# Altium schematic symbol library SCH - MCU - STM32 - ST MICROELECTRONICS STM32MP153AADX TFBGA257.SchLib: 1 symbol
Pins are listed as number, name and electrical type; pins without a type are passive.

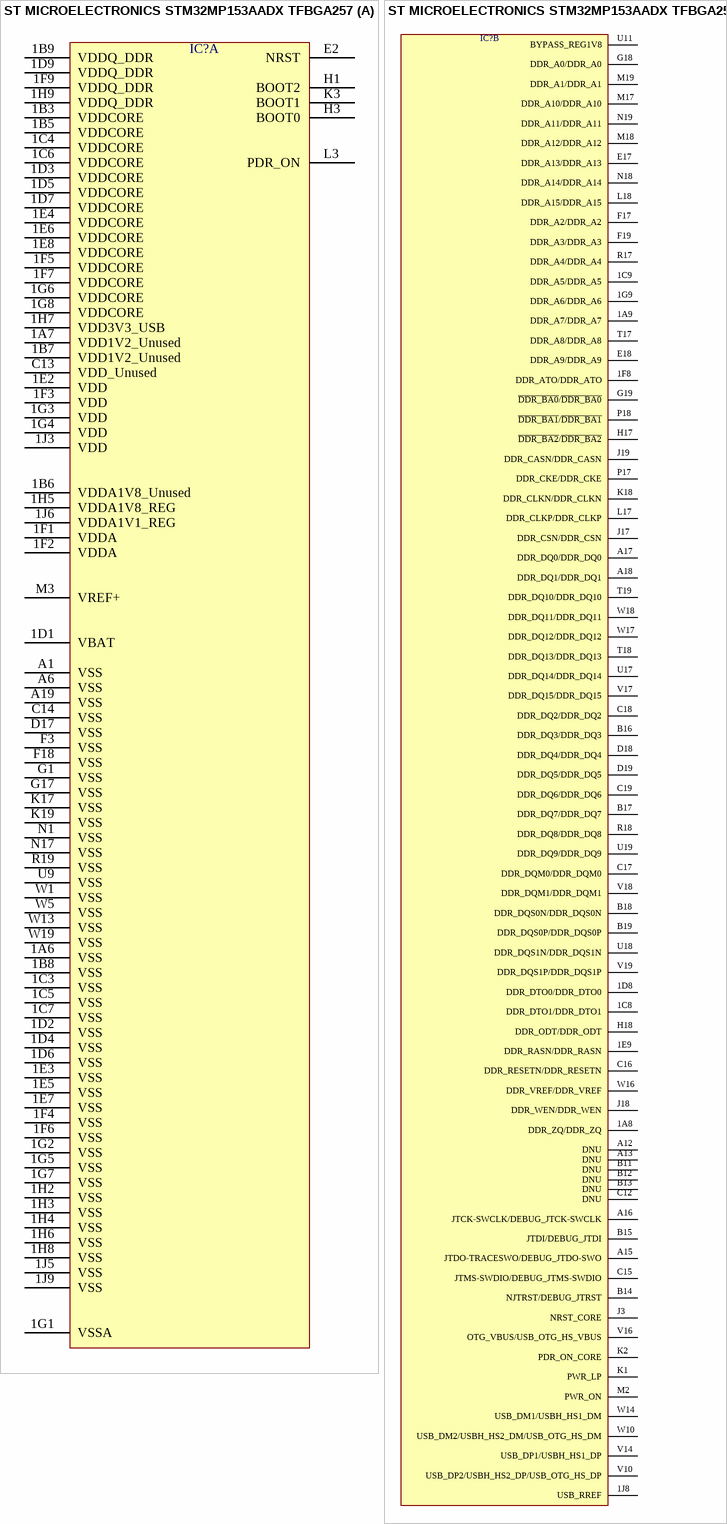
[diagram p0: symbol ST MICROELECTRONICS STM32MP153AADX TFBGA257]

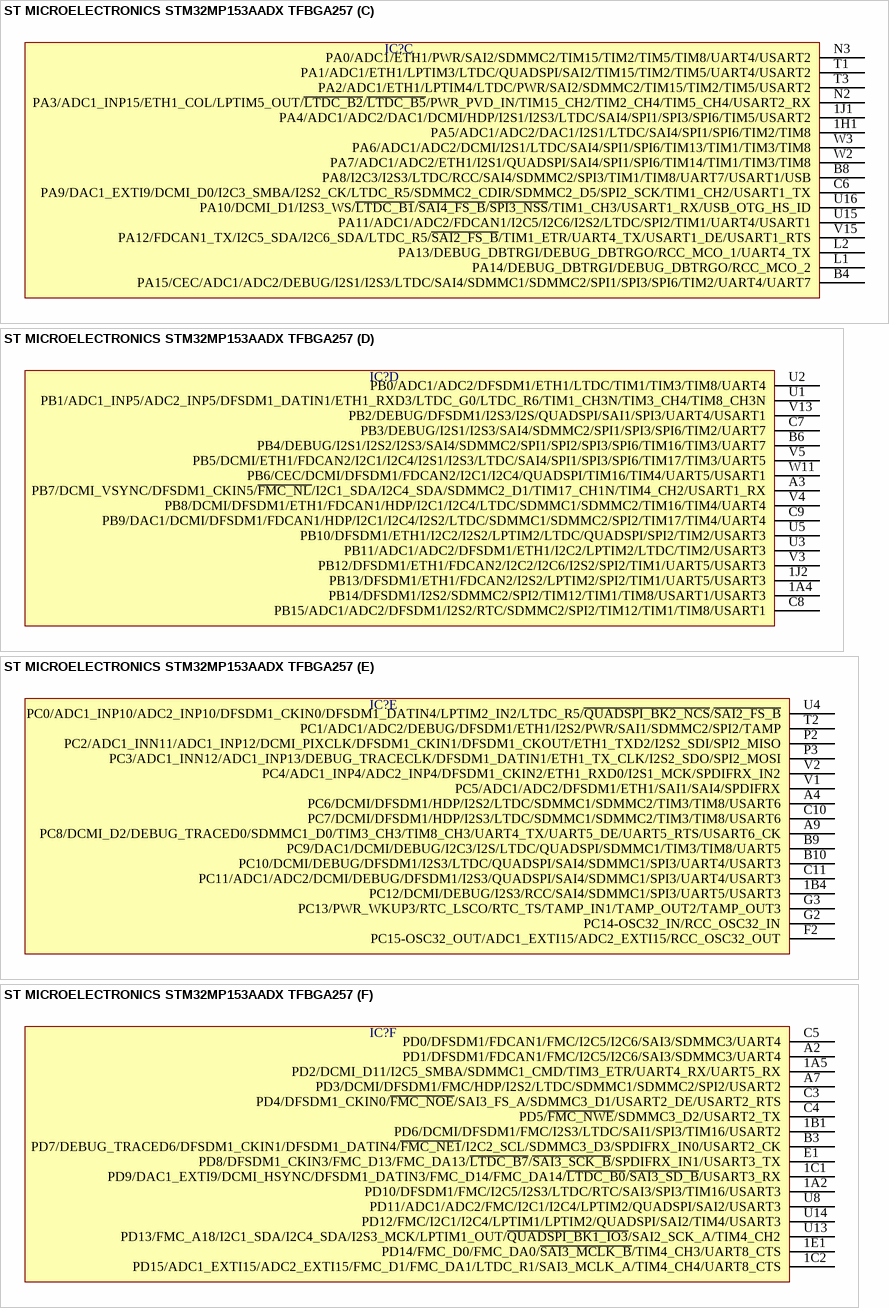
[diagram p1: symbol ST MICROELECTRONICS STM32MP153AADX TFBGA257]

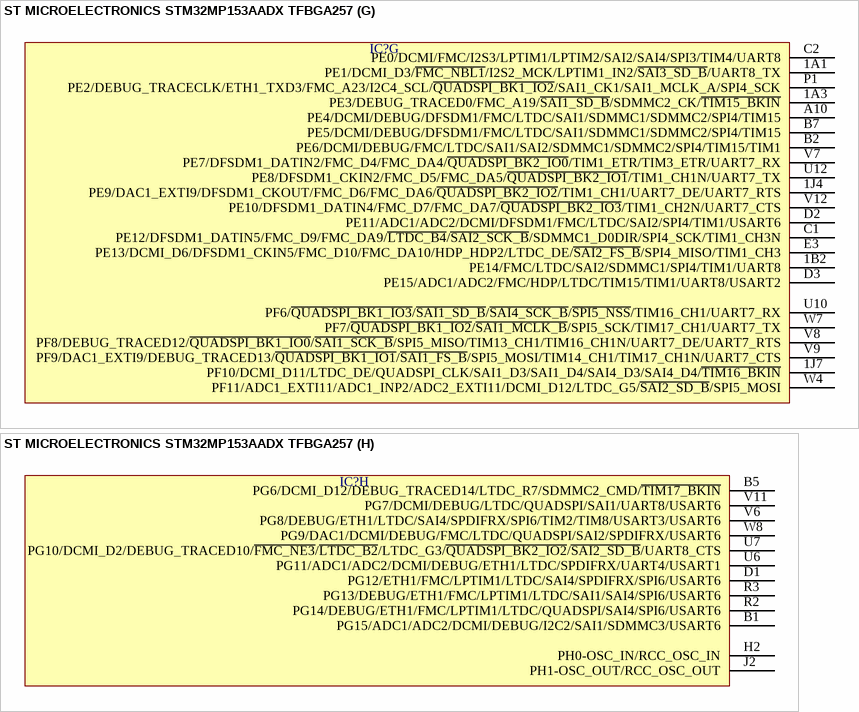
[diagram p2: symbol ST MICROELECTRONICS STM32MP153AADX TFBGA257]

## ST MICROELECTRONICS STM32MP153AADX TFBGA257
designator IC?  (value not drawn)
part A pins: 1A6 VSS, 1A7 VDD1V2_Unused, 1B3 VDDCORE, 1B5 VDDCORE, 1B6 VDDA1V8_Unused, 1B7 VDD1V2_Unused, 1B8 VSS, 1B9 VDDQ_DDR, 1C3 VSS, 1C4 VDDCORE, 1C5 VSS, 1C6 VDDCORE, 1C7 VSS, 1D1 VBAT, 1D2 VSS, 1D3 VDDCORE, 1D4 VSS, 1D5 VDDCORE, 1D6 VSS, 1D7 VDDCORE, 1D9 VDDQ_DDR, 1E2 VDD, 1E3 VSS, 1E4 VDDCORE, 1E5 VSS, 1E6 VDDCORE, 1E7 VSS, 1E8 VDDCORE, 1F1 VDDA, 1F2 VDDA, 1F3 VDD, 1F4 VSS, 1F5 VDDCORE, 1F6 VSS, 1F7 VDDCORE, 1F9 VDDQ_DDR, 1G1 VSSA, 1G2 VSS, 1G3 VDD, 1G4 VDD, 1G5 VSS, 1G6 VDDCORE, 1G7 VSS, 1G8 VDDCORE, 1H2 VSS, 1H3 VSS, 1H4 VSS, 1H5 VDDA1V8_REG, 1H6 VSS, 1H7 VDD3V3_USB, 1H8 VSS, 1H9 VDDQ_DDR, 1J3 VDD, 1J5 VSS, 1J6 VDDA1V1_REG, 1J9 VSS, A1 VSS, A6 VSS, A19 VSS, C13 VDD_Unused, C14 VSS, D17 VSS, E2 NRST, F3 VSS, F18 VSS, G1 VSS, G17 VSS, H1 BOOT2, H3 BOOT0, K3 BOOT1, K17 VSS, K19 VSS, L3 PDR_ON, M3 VREF+, N1 VSS, N17 VSS, R19 VSS, U9 VSS, W1 VSS, W5 VSS, W13 VSS, W19 VSS
part B pins: 1A8 DDR_ZQ/DDR_ZQ, 1A9 DDR_A7/DDR_A7, 1C8 DDR_DTO1/DDR_DTO1, 1C9 DDR_A5/DDR_A5, 1D8 DDR_DTO0/DDR_DTO0, 1E9 DDR_RASN/DDR_RASN, 1F8 DDR_ATO/DDR_ATO, 1G9 DDR_A6/DDR_A6, 1J8 USB_RREF, A12 DNU, A13 DNU, A15 JTDO-TRACESWO/DEBUG_JTDO-SWO, A16 JTCK-SWCLK/DEBUG_JTCK-SWCLK, A17 DDR_DQ0/DDR_DQ0, A18 DDR_DQ1/DDR_DQ1, B11 DNU, B12 DNU, B13 DNU, B14 NJTRST/DEBUG_JTRST, B15 JTDI/DEBUG_JTDI, B16 DDR_DQ3/DDR_DQ3, B17 DDR_DQ7/DDR_DQ7, B18 DDR_DQS0N/DDR_DQS0N, B19 DDR_DQS0P/DDR_DQS0P, C12 DNU, C15 JTMS-SWDIO/DEBUG_JTMS-SWDIO, C16 DDR_RESETN/DDR_RESETN, C17 DDR_DQM0/DDR_DQM0, C18 DDR_DQ2/DDR_DQ2, C19 DDR_DQ6/DDR_DQ6, D18 DDR_DQ4/DDR_DQ4, D19 DDR_DQ5/DDR_DQ5, E17 DDR_A13/DDR_A13, E18 DDR_A9/DDR_A9, F17 DDR_A2/DDR_A2, F19 DDR_A3/DDR_A3, G18 DDR_A0/DDR_A0, G19 ~{DDR_BA0}/~{DDR_BA0}, H17 ~{DDR_BA2}/~{DDR_BA2}, H18 DDR_ODT/DDR_ODT, J3 NRST_CORE, J17 DDR_CSN/DDR_CSN, J18 DDR_WEN/DDR_WEN, J19 DDR_CASN/DDR_CASN, K1 PWR_LP, K2 PDR_ON_CORE, K18 DDR_CLKN/DDR_CLKN, L17 DDR_CLKP/DDR_CLKP, L18 DDR_A15/DDR_A15, M2 PWR_ON, M17 DDR_A10/DDR_A10, M18 DDR_A12/DDR_A12, M19 DDR_A1/DDR_A1, N18 DDR_A14/DDR_A14, N19 DDR_A11/DDR_A11, P17 DDR_CKE/DDR_CKE, P18 ~{DDR_BA1}/~{DDR_BA1}, R17 DDR_A4/DDR_A4, R18 DDR_DQ8/DDR_DQ8, T17 DDR_A8/DDR_A8, T18 DDR_DQ13/DDR_DQ13, T19 DDR_DQ10/DDR_DQ10, U11 BYPASS_REG1V8, U17 DDR_DQ14/DDR_DQ14, U18 DDR_DQS1N/DDR_DQS1N, U19 DDR_DQ9/DDR_DQ9, V10 USB_DP2/USBH_HS2_DP/USB_OTG_HS_DP, V14 USB_DP1/USBH_HS1_DP, V16 OTG_VBUS/USB_OTG_HS_VBUS, V17 DDR_DQ15/DDR_DQ15, V18 DDR_DQM1/DDR_DQM1, V19 DDR_DQS1P/DDR_DQS1P, W10 USB_DM2/USBH_HS2_DM/USB_OTG_HS_DM, W14 USB_DM1/USBH_HS1_DM, W16 DDR_VREF/DDR_VREF, W17 DDR_DQ12/DDR_DQ12, W18 DDR_DQ11/DDR_DQ11
part C pins: 1H1 PA5/ADC1/ADC2/DAC1/I2S1/LTDC/SAI4/SPI1/SPI6/TIM2/TIM8, 1J1 PA4/ADC1/ADC2/DAC1/DCMI/HDP/I2S1/I2S3/LTDC/SAI4/SPI1/SPI3/SPI6/TIM5/USART2, B4 PA15/CEC/ADC1/ADC2/DEBUG/I2S1/I2S3/LTDC/SAI4/SDMMC1/SDMMC2/SPI1/SPI3/SPI6/TIM2/UART4/UART7, B8 PA8/I2C3/I2S3/LTDC/RCC/SAI4/SDMMC2/SPI3/TIM1/TIM8/UART7/USART1/USB, C6 PA9/DAC1_EXTI9/DCMI_D0/I2C3_SMBA/I2S2_CK/LTDC_R5/SDMMC2_CDIR/SDMMC2_D5/SPI2_SCK/TIM1_CH2/USART1_TX, L1 PA14/DEBUG_DBTRGI/DEBUG_DBTRGO/RCC_MCO_2, L2 PA13/DEBUG_DBTRGI/DEBUG_DBTRGO/RCC_MCO_1/UART4_TX, N2 PA3/ADC1_INP15/ETH1_COL/LPTIM5_OUT/~{LTDC_B2}/~{LTDC_B5}/PWR_PVD_IN/TIM15_CH2/TIM2_CH4/TIM5_CH4/USART2_RX, N3 PA0/ADC1/ETH1/PWR/SAI2/SDMMC2/TIM15/TIM2/TIM5/TIM8/UART4/USART2, T1 PA1/ADC1/ETH1/LPTIM3/LTDC/QUADSPI/SAI2/TIM15/TIM2/TIM5/UART4/USART2, T3 PA2/ADC1/ETH1/LPTIM4/LTDC/PWR/SAI2/SDMMC2/TIM15/TIM2/TIM5/USART2, U15 PA11/ADC1/ADC2/FDCAN1/I2C5/I2C6/I2S2/LTDC/SPI2/TIM1/UART4/USART1, U16 PA10/DCMI_D1/I2S3_WS/~{LTDC_B1}/~{SAI4_FS_B}/~{SPI3_NSS}/TIM1_CH3/USART1_RX/USB_OTG_HS_ID, V15 PA12/FDCAN1_TX/I2C5_SDA/I2C6_SDA/LTDC_R5/~{SAI2_FS_B}/TIM1_ETR/UART4_TX/USART1_DE/USART1_RTS, W2 PA7/ADC1/ADC2/ETH1/I2S1/QUADSPI/SAI4/SPI1/SPI6/TIM14/TIM1/TIM3/TIM8, W3 PA6/ADC1/ADC2/DCMI/I2S1/LTDC/SAI4/SPI1/SPI6/TIM13/TIM1/TIM3/TIM8
part D pins: 1A4 PB14/DFSDM1/I2S2/SDMMC2/SPI2/TIM12/TIM1/TIM8/USART1/USART3, 1J2 PB13/DFSDM1/ETH1/FDCAN2/I2S2/LPTIM2/SPI2/TIM1/UART5/USART3, A3 PB7/DCMI_VSYNC/DFSDM1_CKIN5/~{FMC_NL}/I2C1_SDA/I2C4_SDA/SDMMC2_D1/TIM17_CH1N/TIM4_CH2/USART1_RX, B6 PB4/DEBUG/I2S1/I2S2/I2S3/SAI4/SDMMC2/SPI1/SPI2/SPI3/SPI6/TIM16/TIM3/UART7, C7 PB3/DEBUG/I2S1/I2S3/SAI4/SDMMC2/SPI1/SPI3/SPI6/TIM2/UART7, C8 PB15/ADC1/ADC2/DFSDM1/I2S2/RTC/SDMMC2/SPI2/TIM12/TIM1/TIM8/USART1, C9 PB9/DAC1/DCMI/DFSDM1/FDCAN1/HDP/I2C1/I2C4/I2S2/LTDC/SDMMC1/SDMMC2/SPI2/TIM17/TIM4/UART4, U1 PB1/ADC1_INP5/ADC2_INP5/DFSDM1_DATIN1/ETH1_RXD3/LTDC_G0/LTDC_R6/TIM1_CH3N/TIM3_CH4/TIM8_CH3N, U2 PB0/ADC1/ADC2/DFSDM1/ETH1/LTDC/TIM1/TIM3/TIM8/UART4, U3 PB11/ADC1/ADC2/DFSDM1/ETH1/I2C2/LPTIM2/LTDC/TIM2/USART3, U5 PB10/DFSDM1/ETH1/I2C2/I2S2/LPTIM2/LTDC/QUADSPI/SPI2/TIM2/USART3, V3 PB12/DFSDM1/ETH1/FDCAN2/I2C2/I2C6/I2S2/SPI2/TIM1/UART5/USART3, V4 PB8/DCMI/DFSDM1/ETH1/FDCAN1/HDP/I2C1/I2C4/LTDC/SDMMC1/SDMMC2/TIM16/TIM4/UART4, V5 PB5/DCMI/ETH1/FDCAN2/I2C1/I2C4/I2S1/I2S3/LTDC/SAI4/SPI1/SPI3/SPI6/TIM17/TIM3/UART5, V13 PB2/DEBUG/DFSDM1/I2S3/I2S/QUADSPI/SAI1/SPI3/UART4/USART1, W11 PB6/CEC/DCMI/DFSDM1/FDCAN2/I2C1/I2C4/QUADSPI/TIM16/TIM4/UART5/USART1
part E pins: 1B4 PC12/DCMI/DEBUG/I2S3/RCC/SAI4/SDMMC1/SPI3/UART5/USART3, A4 PC6/DCMI/DFSDM1/HDP/I2S2/LTDC/SDMMC1/SDMMC2/TIM3/TIM8/USART6, A9 PC8/DCMI_D2/DEBUG_TRACED0/SDMMC1_D0/TIM3_CH3/TIM8_CH3/UART4_TX/UART5_DE/UART5_RTS/USART6_CK, B9 PC9/DAC1/DCMI/DEBUG/I2C3/I2S/LTDC/QUADSPI/SDMMC1/TIM3/TIM8/UART5, B10 PC10/DCMI/DEBUG/DFSDM1/I2S3/LTDC/QUADSPI/SAI4/SDMMC1/SPI3/UART4/USART3, C10 PC7/DCMI/DFSDM1/HDP/I2S3/LTDC/SDMMC1/SDMMC2/TIM3/TIM8/USART6, C11 PC11/ADC1/ADC2/DCMI/DEBUG/DFSDM1/I2S3/QUADSPI/SAI4/SDMMC1/SPI3/UART4/USART3, F2 PC15-OSC32_OUT/ADC1_EXTI15/ADC2_EXTI15/RCC_OSC32_OUT, G2 PC14-OSC32_IN/RCC_OSC32_IN, G3 PC13/PWR_WKUP3/RTC_LSCO/RTC_TS/TAMP_IN1/TAMP_OUT2/TAMP_OUT3, P2 PC2/ADC1_INN11/ADC1_INP12/DCMI_PIXCLK/DFSDM1_CKIN1/DFSDM1_CKOUT/ETH1_TXD2/I2S2_SDI/SPI2_MISO, P3 PC3/ADC1_INN12/ADC1_INP13/DEBUG_TRACECLK/DFSDM1_DATIN1/ETH1_TX_CLK/I2S2_SDO/SPI2_MOSI, T2 PC1/ADC1/ADC2/DEBUG/DFSDM1/ETH1/I2S2/PWR/SAI1/SDMMC2/SPI2/TAMP, U4 PC0/ADC1_INP10/ADC2_INP10/DFSDM1_CKIN0/DFSDM1_DATIN4/LPTIM2_IN2/LTDC_R5/~{QUADSPI_BK2_NCS}/~{SAI2_FS_B}, V1 PC5/ADC1/ADC2/DFSDM1/ETH1/SAI1/SAI4/SPDIFRX, V2 PC4/ADC1_INP4/ADC2_INP4/DFSDM1_CKIN2/ETH1_RXD0/I2S1_MCK/SPDIFRX_IN2
part F pins: 1A2 PD10/DFSDM1/FMC/I2C5/I2S3/LTDC/RTC/SAI3/SPI3/TIM16/USART3, 1A5 PD2/DCMI_D11/I2C5_SMBA/SDMMC1_CMD/TIM3_ETR/UART4_RX/UART5_RX, 1B1 PD6/DCMI/DFSDM1/FMC/I2S3/LTDC/SAI1/SPI3/TIM16/USART2, 1C1 PD9/DAC1_EXTI9/DCMI_HSYNC/DFSDM1_DATIN3/FMC_D14/FMC_DA14/~{LTDC_B0}/~{SAI3_SD_B}/USART3_RX, 1C2 PD15/ADC1_EXTI15/ADC2_EXTI15/FMC_D1/FMC_DA1/LTDC_R1/SAI3_MCLK_A/TIM4_CH4/UART8_CTS, 1E1 PD14/FMC_D0/FMC_DA0/~{SAI3_MCLK_B}/TIM4_CH3/UART8_CTS, A2 PD1/DFSDM1/FDCAN1/FMC/I2C5/I2C6/SAI3/SDMMC3/UART4, A7 PD3/DCMI/DFSDM1/FMC/HDP/I2S2/LTDC/SDMMC1/SDMMC2/SPI2/USART2, B3 PD7/DEBUG_TRACED6/DFSDM1_CKIN1/DFSDM1_DATIN4/~{FMC_NE1}/I2C2_SCL/SDMMC3_D3/SPDIFRX_IN0/USART2_CK, C3 PD4/DFSDM1_CKIN0/~{FMC_NOE}/SAI3_FS_A/SDMMC3_D1/USART2_DE/USART2_RTS, C4 PD5/~{FMC_NWE}/SDMMC3_D2/USART2_TX, C5 PD0/DFSDM1/FDCAN1/FMC/I2C5/I2C6/SAI3/SDMMC3/UART4, E1 PD8/DFSDM1_CKIN3/FMC_D13/FMC_DA13/~{LTDC_B7}/~{SAI3_SCK_B}/SPDIFRX_IN1/USART3_TX, U8 PD11/ADC1/ADC2/FMC/I2C1/I2C4/LPTIM2/QUADSPI/SAI2/USART3, U13 PD13/FMC_A18/I2C1_SDA/I2C4_SDA/I2S3_MCK/LPTIM1_OUT/~{QUADSPI_BK1_IO3}/SAI2_SCK_A/TIM4_CH2, U14 PD12/FMC/I2C1/I2C4/LPTIM1/LPTIM2/QUADSPI/SAI2/TIM4/USART3
part G pins: 1A1 PE1/DCMI_D3/~{FMC_NBL1}/I2S2_MCK/LPTIM1_IN2/~{SAI3_SD_B}/UART8_TX, 1A3 PE3/DEBUG_TRACED0/FMC_A19/~{SAI1_SD_B}/SDMMC2_CK/~{TIM15_BKIN}, 1B2 PE14/FMC/LTDC/SAI2/SDMMC1/SPI4/TIM1/UART8, 1J4 PE9/DAC1_EXTI9/DFSDM1_CKOUT/FMC_D6/FMC_DA6/~{QUADSPI_BK2_IO2}/TIM1_CH1/UART7_DE/UART7_RTS, 1J7 PF10/DCMI_D11/LTDC_DE/QUADSPI_CLK/SAI1_D3/SAI1_D4/SAI4_D3/SAI4_D4/~{TIM16_BKIN}, A10 PE4/DCMI/DEBUG/DFSDM1/FMC/LTDC/SAI1/SDMMC1/SDMMC2/SPI4/TIM15, B2 PE6/DCMI/DEBUG/FMC/LTDC/SAI1/SAI2/SDMMC1/SDMMC2/SPI4/TIM15/TIM1, B7 PE5/DCMI/DEBUG/DFSDM1/FMC/LTDC/SAI1/SDMMC1/SDMMC2/SPI4/TIM15, C1 PE12/DFSDM1_DATIN5/FMC_D9/FMC_DA9/~{LTDC_B4}/~{SAI2_SCK_B}/SDMMC1_D0DIR/SPI4_SCK/TIM1_CH3N, C2 PE0/DCMI/FMC/I2S3/LPTIM1/LPTIM2/SAI2/SAI4/SPI3/TIM4/UART8, D2 PE11/ADC1/ADC2/DCMI/DFSDM1/FMC/LTDC/SAI2/SPI4/TIM1/USART6, D3 PE15/ADC1/ADC2/FMC/HDP/LTDC/TIM15/TIM1/UART8/USART2, E3 PE13/DCMI_D6/DFSDM1_CKIN5/FMC_D10/FMC_DA10/HDP_HDP2/LTDC_DE/~{SAI2_FS_B}/SPI4_MISO/TIM1_CH3, P1 PE2/DEBUG_TRACECLK/ETH1_TXD3/FMC_A23/I2C4_SCL/~{QUADSPI_BK1_IO2}/SAI1_CK1/SAI1_MCLK_A/SPI4_SCK, U10 PF6/~{QUADSPI_BK1_IO3}/~{SAI1_SD_B}/~{SAI4_SCK_B}/~{SPI5_NSS}/TIM16_CH1/UART7_RX, U12 PE8/DFSDM1_CKIN2/FMC_D5/FMC_DA5/~{QUADSPI_BK2_IO1}/TIM1_CH1N/UART7_TX, V7 PE7/DFSDM1_DATIN2/FMC_D4/FMC_DA4/~{QUADSPI_BK2_IO0}/TIM1_ETR/TIM3_ETR/UART7_RX, V8 PF8/DEBUG_TRACED12/~{QUADSPI_BK1_IO0}/~{SAI1_SCK_B}/SPI5_MISO/TIM13_CH1/TIM16_CH1N/UART7_DE/UART7_RTS, V9 PF9/DAC1_EXTI9/DEBUG_TRACED13/~{QUADSPI_BK1_IO1}/~{SAI1_FS_B}/SPI5_MOSI/TIM14_CH1/TIM17_CH1N/UART7_CTS, V12 PE10/DFSDM1_DATIN4/FMC_D7/FMC_DA7/~{QUADSPI_BK2_IO3}/TIM1_CH2N/UART7_CTS, W4 PF11/ADC1_EXTI11/ADC1_INP2/ADC2_EXTI11/DCMI_D12/LTDC_G5/~{SAI2_SD_B}/SPI5_MOSI, W7 PF7/~{QUADSPI_BK1_IO2}/~{SAI1_MCLK_B}/SPI5_SCK/TIM17_CH1/UART7_TX
part H pins: B1 PG15/ADC1/ADC2/DCMI/DEBUG/I2C2/SAI1/SDMMC3/USART6, B5 PG6/DCMI_D12/DEBUG_TRACED14/LTDC_R7/SDMMC2_CMD/~{TIM17_BKIN}, D1 PG12/ETH1/FMC/LPTIM1/LTDC/SAI4/SPDIFRX/SPI6/USART6, H2 PH0-OSC_IN/RCC_OSC_IN, J2 PH1-OSC_OUT/RCC_OSC_OUT, R2 PG14/DEBUG/ETH1/FMC/LPTIM1/LTDC/QUADSPI/SAI4/SPI6/USART6, R3 PG13/DEBUG/ETH1/FMC/LPTIM1/LTDC/SAI1/SAI4/SPI6/USART6, U6 PG11/ADC1/ADC2/DCMI/DEBUG/ETH1/LTDC/SPDIFRX/UART4/USART1, U7 PG10/DCMI_D2/DEBUG_TRACED10/~{FMC_NE3}/~{LTDC_B2}/LTDC_G3/~{QUADSPI_BK2_IO2}/~{SAI2_SD_B}/UART8_CTS, V6 PG8/DEBUG/ETH1/LTDC/SAI4/SPDIFRX/SPI6/TIM2/TIM8/USART3/USART6, V11 PG7/DCMI/DEBUG/LTDC/QUADSPI/SAI1/UART8/USART6, W8 PG9/DAC1/DCMI/DEBUG/FMC/LTDC/QUADSPI/SAI2/SPDIFRX/USART6